# Altium schematic symbol library Header.SchLib: 50 symbols
Pins are listed as number, name and electrical type; pins without a type are passive.

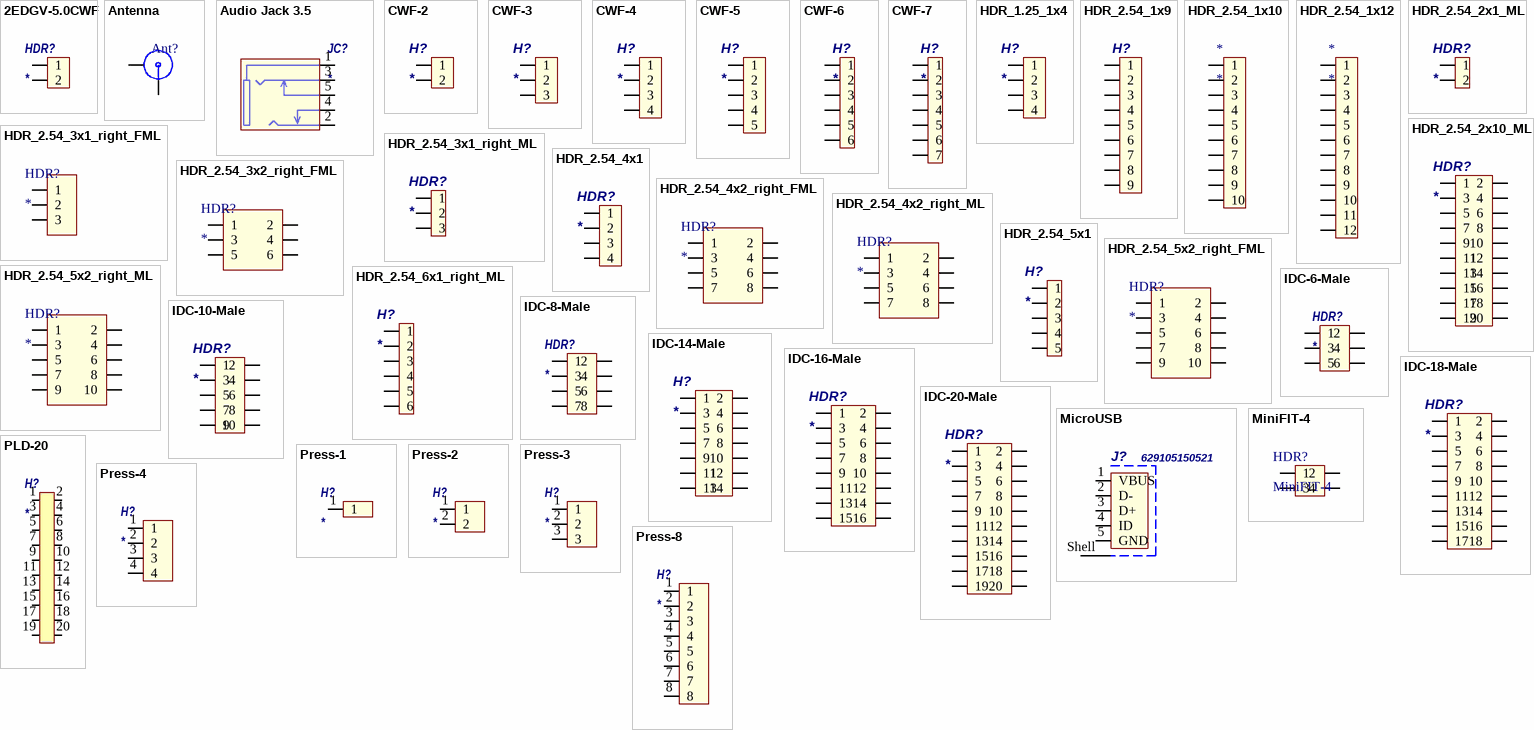
[diagram p0: symbols 2EDGV-5.0CWF to Press-8]

## 2EDGV-5.0CWF
designator HDR?
System: Connector; Pitch: 2.5mm
footprint 2EDGV-5.0
pins: 1, 2

## Antenna
designator Ant?
footprint SMA-right
footprint SMA-angle
pins: 1, 2

## Audio Jack 3.5
designator JC?
Model: *
footprint ST-214
pins: 1, 2, 3, 4, 5

## CWF-2
designator H?
System: Connector; Pitch: 2.5mm
footprint CWF-2
footprint CWF-2R
pins: 1, 2

## CWF-3
designator H?
System: Connector; Pitch: 2.5mm
footprint CWF-3
pins: 1, 2, 3

## CWF-4
designator H?
System: Connector; Pitch: 2.5mm
footprint CWF-4
footprint CWF-4R
pins: 1, 2, 3, 4

## CWF-5
designator H?
System: Connector; Pitch: 2.5mm
footprint CWF-5
footprint CWF-5R
pins: 1, 2, 3, 4, 5

## CWF-6
designator H?
System: Connector; Model: *
footprint CWF-6_M
footprint CWF-6R
pins: 1, 2, 3, 4, 5, 6

## CWF-7
designator H?
System: Connector; Model: *
footprint CWF-7_M
pins: 1, 2, 3, 4, 5, 6, 7

## HDR_1.25_1x4
designator H?
footprint HDR_1.25_1x4
pins: 1, 2, 3, 4

## HDR_2.54_1x9
designator H?  (value not drawn)
System: Connector
footprint HDR_2.54_9x1_M
footprint HDR_2.54_9x1_F
pins: 1, 2, 3, 4, 5, 6, 7, 8, 9

## HDR_2.54_1x10
designator *
footprint HDR_2.54_10x1_M
footprint HDR_2.54_10x1_F
pins: 1, 2, 3, 4, 5, 6, 7, 8, 9, 10

## HDR_2.54_1x12
designator *
footprint HDR_2.54_12x1_M
footprint HDR_2.54_12x1_F
pins: 1, 2, 3, 4, 5, 6, 7, 8, 9, 10, 11, 12

## HDR_2.54_2x1_ML
designator HDR?
System: Connector; Pitch: 2.54mm
footprint HDR_2.54_2x1_M
pins: 1, 2

## HDR_2.54_2x10_ML
designator HDR?
Model: *
footprint PLD-20
pins: 1, 2, 3, 4, 5, 6, 7, 8, 9, 10, 11, 12, 13, 14, 15, 16, 17, 18, 19, 20

## HDR_2.54_3x1_right_FML
designator HDR?
System: Connector; Pitch: 2.54mm
footprint HDR_2.54_3x1_F
pins: 1, 2, 3

## HDR_2.54_3x1_right_ML
designator HDR?
System: Connector; Pitch: 2.54mm
footprint HDR_2.54_3x1_M
pins: 1, 2, 3

## HDR_2.54_3x2_right_FML
designator HDR?
System: Connector; Pitch: 2.54mm
footprint HDR_2.54_3x2_F
pins: 1, 2, 3, 4, 5, 6

## HDR_2.54_4x1
designator HDR?
System: Connector; Pitch: 2.54mm
footprint HDR_2.54_4x1_M
footprint HDR_2.54_4x1_F
pins: 1, 2, 3, 4

## HDR_2.54_4x2_right_FML
designator HDR?
System: Connector; Pitch: 2.54mm
footprint HDR_2.54_4x2_F
pins: 1, 2, 3, 4, 5, 6, 7, 8

## HDR_2.54_4x2_right_ML
designator HDR?
System: Connector; Pitch: 2.54mm
footprint HDR_2.54_4x2_M
pins: 1, 2, 3, 4, 5, 6, 7, 8

## HDR_2.54_5x1
designator H?
System: Connector; Pitch: 2.54mm
footprint HDR_2.54_5x1_M
pins: 1, 2, 3, 4, 5

## HDR_2.54_5x2_right_FML
designator HDR?
System: Connector; Pitch: 2.54mm
footprint HDR_2.54_5x2_F
pins: 1, 2, 3, 4, 5, 6, 7, 8, 9, 10

## HDR_2.54_5x2_right_ML
designator HDR?
System: Connector; Pitch: 2.54mm
footprint HDR_2.54_5x2_M
pins: 1, 2, 3, 4, 5, 6, 7, 8, 9, 10

## HDR_2.54_6x1_right_ML
designator H?
System: Connector; Pitch: 2.54mm
footprint HDR_2.54_6x1_M
pins: 1, 2, 3, 4, 5, 6

## IDC-6-Male
designator HDR?
System: Connector
footprint IDC-6M-Right (Connector; IDC, Low Profile Male Header, Thru-Hole; 6 Position; Vertical; Pitch 2.54 mm; Body 15.24 x 9.2 x 9.45 mm (LxWxH))
pins: 1 (power), 2 (power), 3 (power), 4 (power), 5 (power), 6 (power)

## IDC-8-Male
designator HDR?
System: Connector
footprint IDC-8M-RIGHT (Connector; IDC, PCB Transition - 2 Rows, Thru-Hole; 8 Position; Vertical; Pitch 2.54 mm; Body 15.46 x 6.1 x 7.45 mm (LxWxH))
footprint IDC-8M-EDGE (Connector; IDC, PCB Transition - 2 Rows, Thru-Hole; 8 Position; Vertical; Pitch 2.54 mm; Body 15.46 x 6.1 x 7.45 mm (LxWxH))
pins: 1 (power), 2 (power), 3 (power), 4 (power), 5 (power), 6 (power), 7 (power), 8 (power)

## IDC-10-Male
designator HDR?
System: Connector; Pitch: 2.54
footprint IDC-10M-RIGHT (Connector; IDC, PCB Transition - 2 Rows, Thru-Hole; 8 Position; Vertical; Pitch 2.54 mm; Body 15.46 x 6.1 x 7.45 mm (LxWxH))
footprint IDC-10M-ANGLE (Connector; IDC, PCB Transition - 2 Rows, Thru-Hole; 8 Position; Vertical; Pitch 2.54 mm; Body 15.46 x 6.1 x 7.45 mm (LxWxH))
pins: 1 (power), 2 (power), 3 (power), 4 (power), 5 (power), 6 (power), 7 (power), 8 (power), 9 (power), 10 (power)

## IDC-14-Male
designator H?
System: Connector; Pitch: 2.54
footprint IDC-14M
footprint IDC-14MR
pins: 1, 2, 3, 4, 5, 6, 7, 8, 9, 10, 11, 12, 13, 14

## IDC-16-Male
designator HDR?
System: Connector; Pitch: 2.54
footprint IDC-16M-Right
pins: 1, 2, 3, 4, 5, 6, 7, 8, 9, 10, 11, 12, 13, 14, 15, 16

## IDC-18-Male
designator HDR?
System: Connector; Pitch: 2.54
footprint IDC-18M-Right
pins: 1, 2, 3, 4, 5, 6, 7, 8, 9, 10, 11, 12, 13, 14, 15, 16, 17, 18

## IDC-20-Male
designator HDR?
System: Connector; Pitch: 2.54
footprint IDC-20M-Right
pins: 1, 2, 3, 4, 5, 6, 7, 8, 9, 10, 11, 12, 13, 14, 15, 16, 17, 18, 19, 20

## MicroUSB
designator J?, comment 629105150521
Micro USB 2.0 Type B Receptacle WR-COM, Horizontal, SMT, with Pegs, High Current at Pin 1 & Pin 5; Manufacturer: Wurth Elektronik; Contact Resistance: 30mOhm; Rated Current: 3A; Working Voltage: 30VAC; Package Reference: 629105150521; Mounting Technology: SMT; Connector Type: MicroUSB2.0TypeB; Operating Temperature: -40to85degC; Orientation: Horizontal; Manufacturer URL: http://www.we-online.de; Datasheet URL: https://katalog.we-online.de/em/datasheet/629105150521.pdf; Part Number: 629105150521; Packaging: TapeandReel; Gender: Receptacle; Publisher: WurthElektronik
footprint MicroUSB (Micro USB 2.0 SMT Type B Horizontal 5 Contacts High Current)
pins: 1 VBUS, 2 D-, 3 D+, 4 ID, 5 GND, Shell Shield

## MiniFIT-4
designator HDR?
footprint MF-4MRA
pins: 1, 2, 3, 4

## PLD-20
designator H?
System: Connector
footprint PLD-20_2.54
footprint PBD-20_2.54
pins: 1, 2, 3, 4, 5, 6, 7, 8, 9, 10, 11, 12, 13, 14, 15, 16, 17, 18, 19, 20

## Press-1
designator H?
Model: *
footprint DG141V (Press claim contact)
pins: 1

## Press-2
designator H?
Model: *
footprint DG141V-2 (Press claim contact)
pins: 1, 2

## Press-3
designator H?
Model: *
footprint DG141V-3 (Press claim contact)
pins: 1, 2, 3

## Press-4
designator H?
Model: *
footprint DG141V-4 (Press claim contact)
pins: 1, 2, 3, 4

## Press-8
designator H?
Model: *
footprint DG141V-8 (Press claim contact)
pins: 1, 2, 3, 4, 5, 6, 7, 8

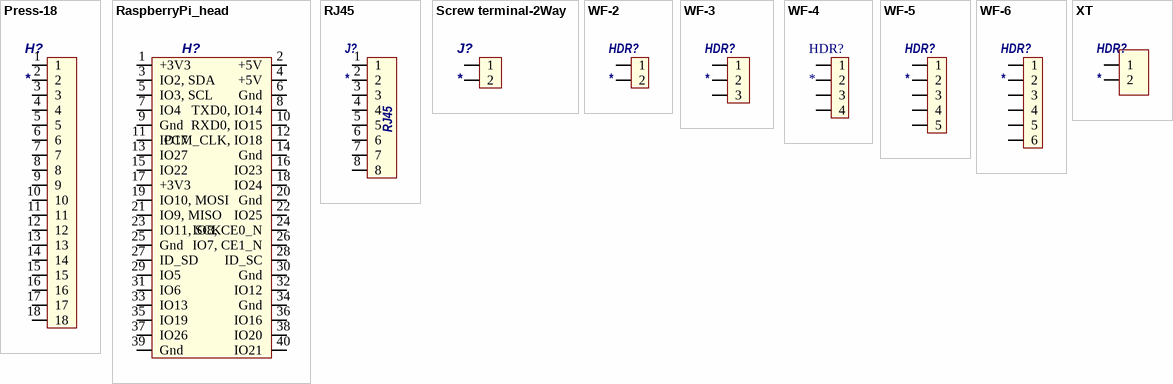
[diagram p1: symbols Press-18 to XT]

## Press-18
designator H?
Model: *
footprint DG141V-18 (Press claim contact)
pins: 1, 2, 3, 4, 5, 6, 7, 8, 9, 10, 11, 12, 13, 14, 15, 16, 17, 18

## RaspberryPi_head
designator H?  (value not drawn)
footprint PBD-40_2.54
pins: 1 +3V3, 2 +5V, 3 IO2, SDA, 4 +5V, 5 IO3, SCL, 6 Gnd, 7 IO4, 8 TXD0, IO14, 9 Gnd, 10 RXD0, IO15, 11 IO17, 12 PCM_CLK, IO18, 13 IO27, 14 Gnd, 15 IO22, 16 IO23, 17 +3V3, 18 IO24, 19 IO10, MOSI, 20 Gnd, 21 IO9, MISO, 22 IO25, 23 IO11, SCK, 24 IO8, CE0_N, 25 Gnd, 26 IO7, CE1_N, 27 ID_SD, 28 ID_SC, 29 IO5, 30 Gnd, 31 IO6, 32 IO12, 33 IO13, 34 Gnd, 35 IO19, 36 IO16, 37 IO26, 38 IO20, 39 Gnd, 40 IO21

## RJ45
designator J?
Model: *
footprint RJ45 DS1125 (Modular Jack Horizontal Shielded 8P8C Tab Down)
pins: 1, 2, 3, 4, 5, 6, 7, 8

## Screw terminal-2Way
designator J?
Model: *
footprint DG305-2-H
pins: 1, 2

## WF-2
designator HDR?
System: Connector; Pitch: 2.54mm
footprint WF-2
pins: 1, 2

## WF-3
designator HDR?
System: Connector; Pitch: 2.54mm
footprint WF-3
pins: 1, 2, 3

## WF-4
designator HDR?
System: Connector; Pitch: 2.54mm
footprint WF-4
pins: 1, 2, 3, 4

## WF-5
designator HDR?
System: Connector; Pitch: 2.54mm
footprint WF-5
pins: 1, 2, 3, 4, 5

## WF-6
designator HDR?
System: Connector; Pitch: 2.54mm
footprint WF-6
pins: 1, 2, 3, 4, 5, 6

## XT
designator HDR?
System: Connector; Pitch: 2.54mm
footprint XT60-F
footprint XT60-M
pins: 1, 2